# Altium schematic symbol library 通信模块.SchLib: 2 symbols
Pins are listed as number, name and electrical type; pins without a type are passive.

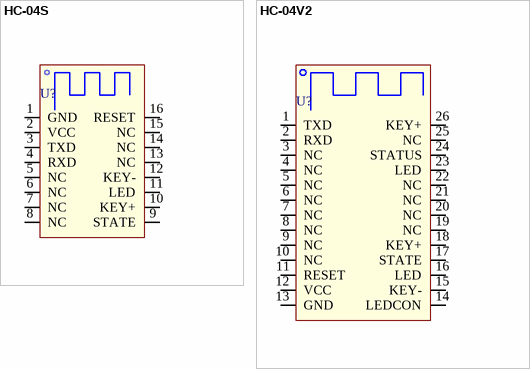
[diagram p0: symbols HC-04S to HC-04V2]

## HC-04S
designator U?
pins: 1 GND, 2 VCC, 3 TXD, 4 RXD, 5 NC, 6 NC, 7 NC, 8 NC, 9 STATE, 10 KEY+, 11 LED, 12 KEY-, 13 NC, 14 NC, 15 NC, 16 RESET

## HC-04V2
designator U?
pins: 1 TXD, 2 RXD, 3 NC, 4 NC, 5 NC, 6 NC, 7 NC, 8 NC, 9 NC, 10 NC, 11 RESET, 12 VCC, 13 GND, 14 LEDCON, 15 KEY-, 16 LED, 17 STATE, 18 KEY+, 19 NC, 20 NC, 21 NC, 22 NC, 23 LED, 24 STATUS, 25 NC, 26 KEY+